# Altium footprint library led.PcbLib: 2 footprints
Each footprint in its own frame and in the unit in brackets; x right, y up, seen from the top. Pads: shape width x height; smd on the part's side, far side on the other; paste and mask are expansions set on the pad; w line width, h text height; cw(c..) or ccw(c..) is an arc to the next point about the centre after c.
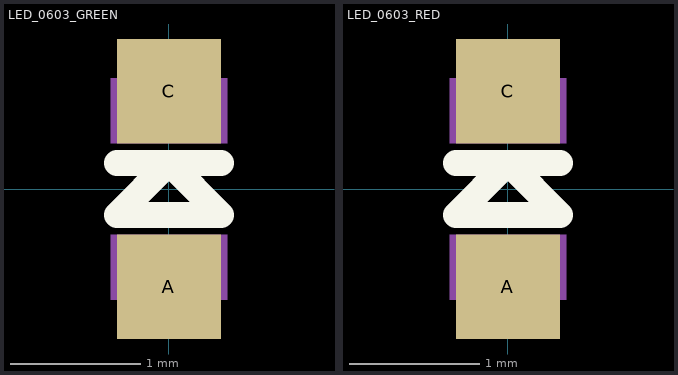
[diagram p0: the footprints below, top view; thin cyan lines are the x and y axes]

## LED_0603_GREEN [mil]
pads (2):
  rect 31.5x31.5 smd: A(0,-29.53) C(0,29.53)
Top Overlay:
  lines w7.87: -15.75,7.87 0,7.87 ; 15.75,7.87 0,7.87 ; 0,7.87 15.75,-7.87 -15.75,-7.87 0,7.87
Mechanical 16:
  rectangle: 6.89,-25.59 10.83,-21.65
  rectangle: -10.83,-25.59 -6.89,-21.65
  rectangle: -10.83,-22.64 10.83,-13.78
  rectangle: 9.84,-33.46 17.72,-13.78
  rectangle: -17.72,-33.46 -9.84,-13.78
  rectangle: -17.72,13.78 17.72,22.64
  rectangle: 9.84,21.65 17.72,33.46
  rectangle: -17.72,13.78 -15.75,28.54
  rectangle: -10.83,21.65 -8.86,23.62
  rectangle: -17.72,27.56 -9.84,33.46
3D body "User Library-LED_0603_G.STEP": height 23.62, standoff -0.08, extent -15.74,-31.5 15.75,31.5

## LED_0603_RED [mil]
pads (2):
  rect 31.5x31.5 smd: A(0,-29.53) C(0,29.53)
Top Overlay:
  lines w7.87: -15.75,7.87 0,7.87 ; 15.75,7.87 0,7.87 ; 0,7.87 15.75,-7.87 -15.75,-7.87 0,7.87
Mechanical 16:
  rectangle: 6.89,-25.59 10.83,-21.65
  rectangle: -10.83,-25.59 -6.89,-21.65
  rectangle: -10.83,-22.64 10.83,-13.78
  rectangle: 9.84,-33.46 17.72,-13.78
  rectangle: -17.72,-33.46 -9.84,-13.78
  rectangle: -17.72,13.78 17.72,22.64
  rectangle: 9.84,21.65 17.72,33.46
  rectangle: -17.72,13.78 -15.75,28.54
  rectangle: -10.83,21.65 -8.86,23.62
  rectangle: -17.72,27.56 -9.84,33.46
3D body "User Library-LED_0603_R.STEP": height 23.62, standoff -0.08, extent -15.74,-31.5 15.75,31.5